# EAGLE library part CON-VHDCI-68 (library con-vhdci-68)
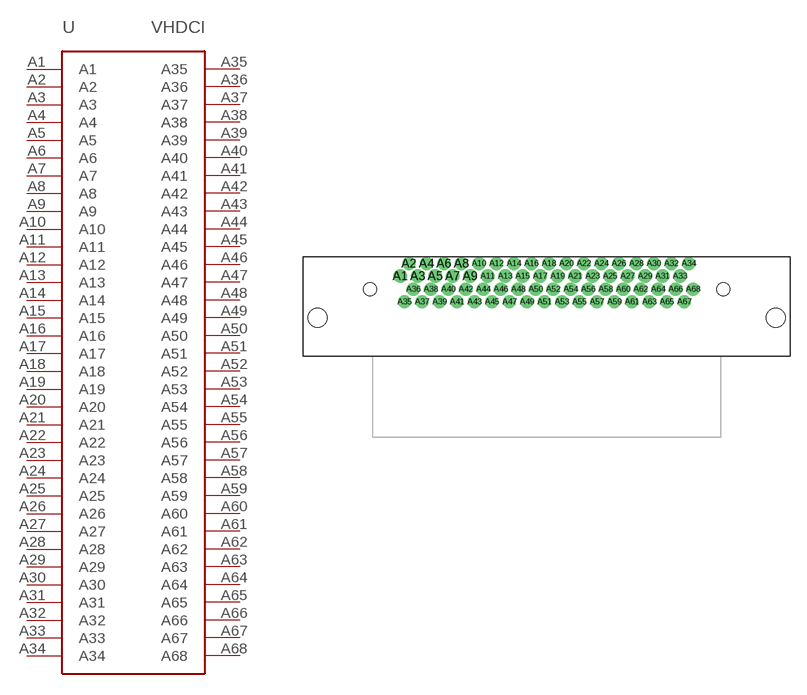
[diagram p0: symbol with the pads of CON-VHDCI; footprint CON-VHDCI]

Designator prefix -

## CON-VHDCI-68  [CON-VHDCI]
A1  A1
A2  A2
A3  A3
A4  A4
A5  A5
A6  A6
A7  A7
A8  A8
A9  A9
A10  A10
A11  A11
A12  A12
A13  A13
A14  A14
A15  A15
A16  A16
A17  A17
A18  A18
A19  A19
A20  A20
A21  A21
A22  A22
A23  A23
A24  A24
A25  A25
A26  A26
A27  A27
A28  A28
A29  A29
A30  A30
A31  A31
A32  A32
A33  A33
A34  A34
A35  A35
A36  A36
A37  A37
A38  A38
A39  A39
A40  A40
A41  A41
A42  A42
A43  A43
A44  A44
A45  A45
A46  A46
A47  A47
A48  A48
A49  A49
A50  A50
A51  A51
A52  A52
A53  A53
A54  A54
A55  A55
A56  A56
A57  A57
A58  A58
A59  A59
A60  A60
A61  A61
A62  A62
A63  A63
A64  A64
A65  A65
A66  A66
A67  A67
A68  A68

## Footprint CON-VHDCI (pad centres in mm)
drill 0.7 pad 0.813: A1 2.525,14.75; A2 3.325,15.9; A3 4.125,14.75; A4 4.925,15.9; A5 5.725,14.75; A6 6.525,15.9; A7 7.325,14.75; A8 8.125,15.9; A9 8.925,14.75; A10 9.725,15.9; A11 10.525,14.75; A12 11.325,15.9; A13 12.125,14.75; A14 12.925,15.9; A15 13.725,14.75; A16 14.525,15.9; A17 15.325,14.75; A18 16.125,15.9; A19 16.925,14.75; A20 17.725,15.9; A21 18.525,14.75; A22 19.325,15.9; A23 20.125,14.75; A24 20.925,15.9; A25 21.725,14.75; A26 22.525,15.9; A27 23.325,14.75; A28 24.125,15.9; A29 24.925,14.75; A30 25.725,15.9; A31 26.525,14.75; A32 27.325,15.9; A33 28.125,14.75; A34 28.925,15.9; A35 2.925,12.4; A36 3.725,13.55; A37 4.525,12.4; A38 5.325,13.55; A39 6.125,12.4; A40 6.925,13.55; A41 7.725,12.4; A42 8.525,13.55; A43 9.325,12.4; A44 10.125,13.55; A45 10.925,12.4; A46 11.725,13.55; A47 12.525,12.4; A48 13.325,13.55; A49 14.125,12.4; A50 14.925,13.55; A51 15.725,12.4; A52 16.525,13.55; A53 17.325,12.4; A54 18.125,13.55; A55 18.925,12.4; A56 19.725,13.55; A57 20.525,12.4; A58 21.325,13.55; A59 22.125,12.4; A60 22.925,13.55; A61 23.725,12.4; A62 24.525,13.55; A63 25.325,12.4; A64 26.125,13.55; A65 26.925,12.4; A66 27.725,13.55; A67 28.525,12.4; A68 29.325,13.55
hole 1.2 at -0.25,13.55
hole 1.2 at 32.1,13.55
hole 1.75 at -5.025,10.925
hole 1.75 at 36.875,10.925